# Altium schematic symbol library jlcpcb_2025_04_ferrites_extended_0402.schlib: 536 symbols (part 2 of 10)
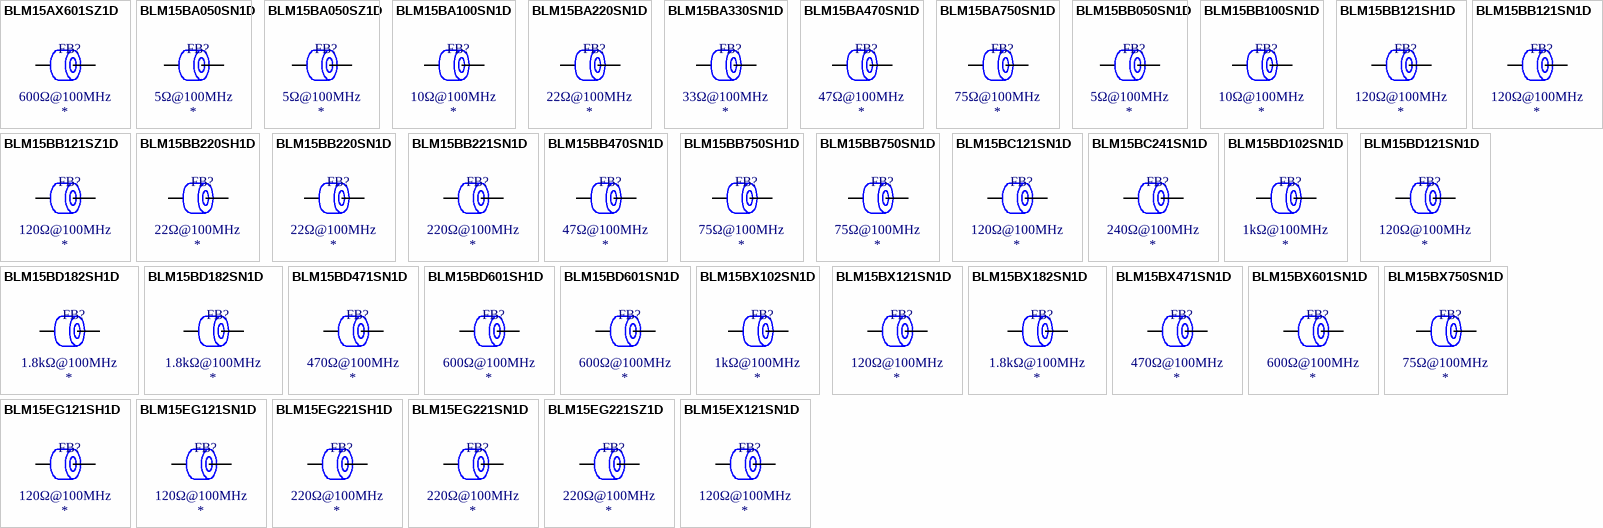
[diagram p14: symbols BLM15AX601SZ1D to BLM15EX121SN1D]

## BLM15BB221SN1D
designator FB?  Impedance @ Frequency: 220Ω@100MHz
Ferrite, 220Ω@100MHz, ±25%, 800mΩ, 200mA, SMD 0402; Manufacturer: Murata Electronics; Manufacturer Part Number: BLM15BB221SN1D; Package Size: 0402; JLCPCB Basic Part: No; JLCPCB Part Number: C85818; Supplier 1: LCSC; Category: Ferrite Beads; Supplier Part Number 1: C85818; Tolerance: ±25%; Rated Current: 200mA; DC Resistance: 800mΩ; RoHS: Yes; ComponentLink1Description: Datasheet; ComponentLink1URL: https://wmsc.lcsc.com/wmsc/upload/file/pdf/v2/lcsc/2304140030_Murata-Electronics-BLM15BB221SN1D_C85818.pdf; ComponentLink2Description: JLCPCB Part URL; ComponentLink2URL: https://jlcpcb.com/partdetail/C85818; ComponentLink3Description: LCSC Part URL; ComponentLink3URL: https://lcsc.com/product-detail/Ferrite-Beads_Murata-Electronics-Murata-Electronics-BLM15BB221SN1D_C85818.html
footprint FB-0402 (0402 (1005M) Ferrite)
pins: 1, 2

## BLM15BB470SN1D
designator FB?  Impedance @ Frequency: 47Ω@100MHz
Ferrite, 47Ω@100MHz, ±25%, 350mΩ, 300mA, SMD 0402; Manufacturer: Murata Electronics; Manufacturer Part Number: BLM15BB470SN1D; Package Size: 0402; JLCPCB Basic Part: No; JLCPCB Part Number: C76887; Supplier 1: LCSC; Category: Ferrite Beads; Supplier Part Number 1: C76887; Tolerance: ±25%; Rated Current: 300mA; DC Resistance: 350mΩ; RoHS: Yes; ComponentLink1Description: Datasheet; ComponentLink1URL: https://wmsc.lcsc.com/wmsc/upload/file/pdf/v2/lcsc/2304140030_Murata-Electronics-BLM15BB470SN1D_C76887.pdf; ComponentLink2Description: JLCPCB Part URL; ComponentLink2URL: https://jlcpcb.com/partdetail/C76887; ComponentLink3Description: LCSC Part URL; ComponentLink3URL: https://lcsc.com/product-detail/Ferrite-Beads_Murata-Electronics-Murata-Electronics-BLM15BB470SN1D_C76887.html
footprint FB-0402 (0402 (1005M) Ferrite)
pins: 1, 2

## BLM15BB750SH1D
designator FB?  Impedance @ Frequency: 75Ω@100MHz
Ferrite, 75Ω@100MHz, ±25%, 400mΩ, 300mA, SMD 0402; Manufacturer: Murata Electronics; Manufacturer Part Number: BLM15BB750SH1D; Package Size: 0402; JLCPCB Basic Part: No; JLCPCB Part Number: C1852585; Supplier 1: LCSC; Category: Ferrite Beads; Supplier Part Number 1: C1852585; Tolerance: ±25%; Rated Current: 300mA; DC Resistance: 400mΩ; RoHS: Yes; ComponentLink1Description: Datasheet; ComponentLink1URL: https://wmsc.lcsc.com/wmsc/upload/file/pdf/v2/lcsc/2304140030_Murata-Electronics-BLM15BB750SH1D_C1852585.pdf; ComponentLink2Description: JLCPCB Part URL; ComponentLink2URL: https://jlcpcb.com/partdetail/C1852585; ComponentLink3Description: LCSC Part URL; ComponentLink3URL: https://lcsc.com/product-detail/Ferrite-Beads_Murata-Electronics-Murata-Electronics-BLM15BB750SH1D_C1852585.html
footprint FB-0402 (0402 (1005M) Ferrite)
pins: 1, 2

## BLM15BB750SN1D
designator FB?  Impedance @ Frequency: 75Ω@100MHz
Ferrite, 75Ω@100MHz, ±25%, 400mΩ, 300mA, SMD 0402; Manufacturer: Murata Electronics; Manufacturer Part Number: BLM15BB750SN1D; Package Size: 0402; JLCPCB Basic Part: No; JLCPCB Part Number: C82880; Supplier 1: LCSC; Category: Ferrite Beads; Supplier Part Number 1: C82880; Tolerance: ±25%; Rated Current: 300mA; DC Resistance: 400mΩ; RoHS: Yes; ComponentLink1Description: Datasheet; ComponentLink1URL: https://wmsc.lcsc.com/wmsc/upload/file/pdf/v2/lcsc/2304140030_Murata-Electronics-BLM15BB750SN1D_C82880.pdf; ComponentLink2Description: JLCPCB Part URL; ComponentLink2URL: https://jlcpcb.com/partdetail/C82880; ComponentLink3Description: LCSC Part URL; ComponentLink3URL: https://lcsc.com/product-detail/Ferrite-Beads_Murata-Electronics-Murata-Electronics-BLM15BB750SN1D_C82880.html
footprint FB-0402 (0402 (1005M) Ferrite)
pins: 1, 2

## BLM15BC121SN1D
designator FB?  Impedance @ Frequency: 120Ω@100MHz
Ferrite, 120Ω@100MHz, ±25%, 450mΩ, 350mA, SMD 0402; Manufacturer: Murata Electronics; Manufacturer Part Number: BLM15BC121SN1D; Package Size: 0402; JLCPCB Basic Part: No; JLCPCB Part Number: C701306; Supplier 1: LCSC; Category: Ferrite Beads; Supplier Part Number 1: C701306; Tolerance: ±25%; Rated Current: 350mA; DC Resistance: 450mΩ; RoHS: Yes; ComponentLink1Description: Datasheet; ComponentLink1URL: https://wmsc.lcsc.com/wmsc/upload/file/pdf/v2/lcsc/2304140030_Murata-Electronics-BLM15BC121SN1D_C701306.pdf; ComponentLink2Description: JLCPCB Part URL; ComponentLink2URL: https://jlcpcb.com/partdetail/C701306; ComponentLink3Description: LCSC Part URL; ComponentLink3URL: https://lcsc.com/product-detail/Ferrite-Beads_Murata-Electronics-Murata-Electronics-BLM15BC121SN1D_C701306.html
footprint FB-0402 (0402 (1005M) Ferrite)
pins: 1, 2

## BLM15BC241SN1D
designator FB?  Impedance @ Frequency: 240Ω@100MHz
Ferrite, 240Ω@100MHz, ±25%, 700mΩ, 250mA, SMD 0402; Manufacturer: Murata Electronics; Manufacturer Part Number: BLM15BC241SN1D; Package Size: 0402; JLCPCB Basic Part: No; JLCPCB Part Number: C88962; Supplier 1: LCSC; Category: Ferrite Beads; Supplier Part Number 1: C88962; Tolerance: ±25%; Rated Current: 250mA; DC Resistance: 700mΩ; RoHS: Yes; ComponentLink1Description: Datasheet; ComponentLink1URL: https://wmsc.lcsc.com/wmsc/upload/file/pdf/v2/lcsc/2304140030_Murata-Electronics-BLM15BC241SN1D_C88962.pdf; ComponentLink2Description: JLCPCB Part URL; ComponentLink2URL: https://jlcpcb.com/partdetail/C88962; ComponentLink3Description: LCSC Part URL; ComponentLink3URL: https://lcsc.com/product-detail/Ferrite-Beads_Murata-Electronics-Murata-Electronics-BLM15BC241SN1D_C88962.html
footprint FB-0402 (0402 (1005M) Ferrite)
pins: 1, 2

## BLM15BD102SN1D
designator FB?  Impedance @ Frequency: 1kΩ@100MHz
Ferrite, 1kΩ@100MHz, ±25%, 900mΩ, 200mA, SMD 0402; Manufacturer: Murata Electronics; Manufacturer Part Number: BLM15BD102SN1D; Package Size: 0402; JLCPCB Basic Part: No; JLCPCB Part Number: C85819; Supplier 1: LCSC; Category: Ferrite Beads; Supplier Part Number 1: C85819; Tolerance: ±25%; Rated Current: 200mA; DC Resistance: 900mΩ; RoHS: Yes; ComponentLink1Description: Datasheet; ComponentLink1URL: https://wmsc.lcsc.com/wmsc/upload/file/pdf/v2/lcsc/2304140030_Murata-Electronics-BLM15BD102SN1D_C85819.pdf; ComponentLink2Description: JLCPCB Part URL; ComponentLink2URL: https://jlcpcb.com/partdetail/C85819; ComponentLink3Description: LCSC Part URL; ComponentLink3URL: https://lcsc.com/product-detail/Ferrite-Beads_Murata-Electronics-Murata-Electronics-BLM15BD102SN1D_C85819.html
footprint FB-0402 (0402 (1005M) Ferrite)
pins: 1, 2

## BLM15BD121SN1D
designator FB?  Impedance @ Frequency: 120Ω@100MHz
Ferrite, 120Ω@100MHz, 300mΩ, SMD 0402; Manufacturer: Murata Electronics; Manufacturer Part Number: BLM15BD121SN1D; Package Size: 0402; JLCPCB Basic Part: No; JLCPCB Part Number: C337874; Supplier 1: LCSC; Category: Ferrite Beads; Supplier Part Number 1: C337874; DC Resistance: 300mΩ; RoHS: Yes; ComponentLink1Description: Datasheet; ComponentLink1URL: https://wmsc.lcsc.com/wmsc/upload/file/pdf/v2/lcsc/2304140030_Murata-Electronics-BLM15BD121SN1D_C337874.pdf; ComponentLink2Description: JLCPCB Part URL; ComponentLink2URL: https://jlcpcb.com/partdetail/C337874; ComponentLink3Description: LCSC Part URL; ComponentLink3URL: https://lcsc.com/product-detail/Ferrite-Beads_Murata-Electronics-Murata-Electronics-BLM15BD121SN1D_C337874.html
pins: 1, 2

## BLM15BD182SH1D
designator FB?  Impedance @ Frequency: 1.8kΩ@100MHz
Ferrite, 1.8kΩ@100MHz, ±25%, 1.4Ω, 200mA, SMD 0402; Manufacturer: Murata Electronics; Manufacturer Part Number: BLM15BD182SH1D; Package Size: 0402; JLCPCB Basic Part: No; JLCPCB Part Number: C396655; Supplier 1: LCSC; Category: Ferrite Beads; Supplier Part Number 1: C396655; Tolerance: ±25%; Rated Current: 200mA; DC Resistance: 1.4Ω; RoHS: Yes; ComponentLink1Description: Datasheet; ComponentLink1URL: https://wmsc.lcsc.com/wmsc/upload/file/pdf/v2/lcsc/2304140030_Murata-Electronics-BLM15BD182SH1D_C396655.pdf; ComponentLink2Description: JLCPCB Part URL; ComponentLink2URL: https://jlcpcb.com/partdetail/C396655; ComponentLink3Description: LCSC Part URL; ComponentLink3URL: https://lcsc.com/product-detail/Ferrite-Beads_Murata-Electronics-Murata-Electronics-BLM15BD182SH1D_C396655.html
footprint FB-0402 (0402 (1005M) Ferrite)
pins: 1, 2

## BLM15BD182SN1D
designator FB?  Impedance @ Frequency: 1.8kΩ@100MHz
Ferrite, 1.8kΩ@100MHz, ±25%, 1.4Ω, 100mA, SMD 0402; Manufacturer: Murata Electronics; Manufacturer Part Number: BLM15BD182SN1D; Package Size: 0402; JLCPCB Basic Part: No; JLCPCB Part Number: C85820; Supplier 1: LCSC; Category: Ferrite Beads; Supplier Part Number 1: C85820; Tolerance: ±25%; Rated Current: 100mA; DC Resistance: 1.4Ω; RoHS: Yes; ComponentLink1Description: Datasheet; ComponentLink1URL: https://wmsc.lcsc.com/wmsc/upload/file/pdf/v2/lcsc/2304140030_Murata-Electronics-BLM15BD182SN1D_C85820.pdf; ComponentLink2Description: JLCPCB Part URL; ComponentLink2URL: https://jlcpcb.com/partdetail/C85820; ComponentLink3Description: LCSC Part URL; ComponentLink3URL: https://lcsc.com/product-detail/Ferrite-Beads_Murata-Electronics-Murata-Electronics-BLM15BD182SN1D_C85820.html
footprint FB-0402 (0402 (1005M) Ferrite)
pins: 1, 2

## BLM15BD471SN1D
designator FB?  Impedance @ Frequency: 470Ω@100MHz
Ferrite, 470Ω@100MHz, ±25%, 600mΩ, 200mA, SMD 0402; Manufacturer: Murata Electronics; Manufacturer Part Number: BLM15BD471SN1D; Package Size: 0402; JLCPCB Basic Part: No; JLCPCB Part Number: C77600; Supplier 1: LCSC; Category: Ferrite Beads; Supplier Part Number 1: C77600; Tolerance: ±25%; Rated Current: 200mA; DC Resistance: 600mΩ; RoHS: Yes; ComponentLink1Description: Datasheet; ComponentLink1URL: https://wmsc.lcsc.com/wmsc/upload/file/pdf/v2/lcsc/2304140030_Murata-Electronics-BLM15BD471SN1D_C77600.pdf; ComponentLink2Description: JLCPCB Part URL; ComponentLink2URL: https://jlcpcb.com/partdetail/C77600; ComponentLink3Description: LCSC Part URL; ComponentLink3URL: https://lcsc.com/product-detail/Ferrite-Beads_Murata-Electronics-Murata-Electronics-BLM15BD471SN1D_C77600.html
footprint FB-0402 (0402 (1005M) Ferrite)
pins: 1, 2

## BLM15BD601SH1D
designator FB?  Impedance @ Frequency: 600Ω@100MHz
Ferrite, 600Ω@100MHz, ±25%, 650mΩ, 200mA, SMD 0402; Manufacturer: Murata Electronics; Manufacturer Part Number: BLM15BD601SH1D; Package Size: 0402; JLCPCB Basic Part: No; JLCPCB Part Number: C710334; Supplier 1: LCSC; Category: Ferrite Beads; Supplier Part Number 1: C710334; Tolerance: ±25%; Rated Current: 200mA; DC Resistance: 650mΩ; RoHS: Yes; ComponentLink1Description: Datasheet; ComponentLink1URL: https://wmsc.lcsc.com/wmsc/upload/file/pdf/v2/lcsc/2304140030_Murata-Electronics-BLM15BD601SH1D_C710334.pdf; ComponentLink2Description: JLCPCB Part URL; ComponentLink2URL: https://jlcpcb.com/partdetail/C710334; ComponentLink3Description: LCSC Part URL; ComponentLink3URL: https://lcsc.com/product-detail/Ferrite-Beads_Murata-Electronics-Murata-Electronics-BLM15BD601SH1D_C710334.html
footprint FB-0402 (0402 (1005M) Ferrite)
pins: 1, 2

## BLM15BD601SN1D
designator FB?  Impedance @ Frequency: 600Ω@100MHz
Ferrite, 600Ω@100MHz, ±25%, 650mΩ, 200mA, SMD 0402; Manufacturer: Murata Electronics; Manufacturer Part Number: BLM15BD601SN1D; Package Size: 0402; JLCPCB Basic Part: No; JLCPCB Part Number: C337875; Supplier 1: LCSC; Category: Ferrite Beads; Supplier Part Number 1: C337875; Tolerance: ±25%; Rated Current: 200mA; DC Resistance: 650mΩ; RoHS: Yes; ComponentLink1Description: Datasheet; ComponentLink1URL: https://wmsc.lcsc.com/wmsc/upload/file/pdf/v2/lcsc/2012071938_Murata-Electronics-BLM15BD601SN1D_C337875.pdf; ComponentLink2Description: JLCPCB Part URL; ComponentLink2URL: https://jlcpcb.com/partdetail/C337875; ComponentLink3Description: LCSC Part URL; ComponentLink3URL: https://lcsc.com/product-detail/Ferrite-Beads_Murata-Electronics-Murata-Electronics-BLM15BD601SN1D_C337875.html
footprint FB-0402 (0402 (1005M) Ferrite)
pins: 1, 2

## BLM15BX102SN1D
designator FB?  Impedance @ Frequency: 1kΩ@100MHz
Ferrite, 1kΩ@100MHz, ±25%, 650mΩ, 300mA, SMD 0402; Manufacturer: Murata Electronics; Manufacturer Part Number: BLM15BX102SN1D; Package Size: 0402; JLCPCB Basic Part: No; JLCPCB Part Number: C269769; Supplier 1: LCSC; Category: Ferrite Beads; Supplier Part Number 1: C269769; Tolerance: ±25%; Rated Current: 300mA; DC Resistance: 650mΩ; RoHS: Yes; ComponentLink1Description: Datasheet; ComponentLink1URL: https://wmsc.lcsc.com/wmsc/upload/file/pdf/v2/lcsc/2304140030_Murata-Electronics-BLM15BX102SN1D_C269769.pdf; ComponentLink2Description: JLCPCB Part URL; ComponentLink2URL: https://jlcpcb.com/partdetail/C269769; ComponentLink3Description: LCSC Part URL; ComponentLink3URL: https://lcsc.com/product-detail/Ferrite-Beads_Murata-Electronics-Murata-Electronics-BLM15BX102SN1D_C269769.html
footprint FB-0402 (0402 (1005M) Ferrite)
pins: 1, 2

## BLM15BX121SN1D
designator FB?  Impedance @ Frequency: 120Ω@100MHz
Ferrite, 120Ω@100MHz, ±25%, 170mΩ, 600mA, SMD 0402; Manufacturer: Murata Electronics; Manufacturer Part Number: BLM15BX121SN1D; Package Size: 0402; JLCPCB Basic Part: No; JLCPCB Part Number: C710335; Supplier 1: LCSC; Category: Ferrite Beads; Supplier Part Number 1: C710335; Tolerance: ±25%; Rated Current: 600mA; DC Resistance: 170mΩ; RoHS: Yes; ComponentLink1Description: Datasheet; ComponentLink1URL: https://wmsc.lcsc.com/wmsc/upload/file/pdf/v2/lcsc/2304140030_Murata-Electronics-BLM15BX121SN1D_C710335.pdf; ComponentLink2Description: JLCPCB Part URL; ComponentLink2URL: https://jlcpcb.com/partdetail/C710335; ComponentLink3Description: LCSC Part URL; ComponentLink3URL: https://lcsc.com/product-detail/Ferrite-Beads_Murata-Electronics-Murata-Electronics-BLM15BX121SN1D_C710335.html
footprint FB-0402 (0402 (1005M) Ferrite)
pins: 1, 2

## BLM15BX182SN1D
designator FB?  Impedance @ Frequency: 1.8kΩ@100MHz
Ferrite, 1.8kΩ@100MHz, ±25%, 900mΩ, 250mA, SMD 0402; Manufacturer: Murata Electronics; Manufacturer Part Number: BLM15BX182SN1D; Package Size: 0402; JLCPCB Basic Part: No; JLCPCB Part Number: C701292; Supplier 1: LCSC; Category: Ferrite Beads; Supplier Part Number 1: C701292; Tolerance: ±25%; Rated Current: 250mA; DC Resistance: 900mΩ; RoHS: Yes; ComponentLink1Description: Datasheet; ComponentLink1URL: https://wmsc.lcsc.com/wmsc/upload/file/pdf/v2/lcsc/2304140030_Murata-Electronics-BLM15BX182SN1D_C701292.pdf; ComponentLink2Description: JLCPCB Part URL; ComponentLink2URL: https://jlcpcb.com/partdetail/C701292; ComponentLink3Description: LCSC Part URL; ComponentLink3URL: https://lcsc.com/product-detail/Ferrite-Beads_Murata-Electronics-Murata-Electronics-BLM15BX182SN1D_C701292.html
footprint FB-0402 (0402 (1005M) Ferrite)
pins: 1, 2

## BLM15BX471SN1D
designator FB?  Impedance @ Frequency: 470Ω@100MHz
Ferrite, 470Ω@100MHz, ±25%, 410mΩ, 350mA, SMD 0402; Manufacturer: Murata Electronics; Manufacturer Part Number: BLM15BX471SN1D; Package Size: 0402; JLCPCB Basic Part: No; JLCPCB Part Number: C2661901; Supplier 1: LCSC; Category: Ferrite Beads; Supplier Part Number 1: C2661901; Tolerance: ±25%; Rated Current: 350mA; DC Resistance: 410mΩ; RoHS: Yes; ComponentLink1Description: Datasheet; ComponentLink1URL: https://wmsc.lcsc.com/wmsc/upload/file/pdf/v2/lcsc/2202131730_Murata-Electronics-BLM15BX471SN1D_C2661901.pdf; ComponentLink2Description: JLCPCB Part URL; ComponentLink2URL: https://jlcpcb.com/partdetail/C2661901; ComponentLink3Description: LCSC Part URL; ComponentLink3URL: https://lcsc.com/product-detail/Ferrite-Beads_Murata-Electronics-Murata-Electronics-BLM15BX471SN1D_C2661901.html
footprint FB-0402 (0402 (1005M) Ferrite)
pins: 1, 2

## BLM15BX601SN1D
designator FB?  Impedance @ Frequency: 600Ω@100MHz
Ferrite, 600Ω@100MHz, ±25%, 460mΩ, 350mA, SMD 0402; Manufacturer: Murata Electronics; Manufacturer Part Number: BLM15BX601SN1D; Package Size: 0402; JLCPCB Basic Part: No; JLCPCB Part Number: C710336; Supplier 1: LCSC; Category: Ferrite Beads; Supplier Part Number 1: C710336; Tolerance: ±25%; Rated Current: 350mA; DC Resistance: 460mΩ; RoHS: Yes; ComponentLink1Description: Datasheet; ComponentLink1URL: https://wmsc.lcsc.com/wmsc/upload/file/pdf/v2/lcsc/2304140030_Murata-Electronics-BLM15BX601SN1D_C710336.pdf; ComponentLink2Description: JLCPCB Part URL; ComponentLink2URL: https://jlcpcb.com/partdetail/C710336; ComponentLink3Description: LCSC Part URL; ComponentLink3URL: https://lcsc.com/product-detail/Ferrite-Beads_Murata-Electronics-Murata-Electronics-BLM15BX601SN1D_C710336.html
footprint FB-0402 (0402 (1005M) Ferrite)
pins: 1, 2

## BLM15BX750SN1D
designator FB?  Impedance @ Frequency: 75Ω@100MHz
Ferrite, 75Ω@100MHz, ±25%, 150mΩ, 600mA, SMD 0402; Manufacturer: Murata Electronics; Manufacturer Part Number: BLM15BX750SN1D; Package Size: 0402; JLCPCB Basic Part: No; JLCPCB Part Number: C269770; Supplier 1: LCSC; Category: Ferrite Beads; Supplier Part Number 1: C269770; Tolerance: ±25%; Rated Current: 600mA; DC Resistance: 150mΩ; RoHS: Yes; ComponentLink1Description: Datasheet; ComponentLink1URL: https://wmsc.lcsc.com/wmsc/upload/file/pdf/v2/lcsc/2304140030_Murata-Electronics-BLM15BX750SN1D_C269770.pdf; ComponentLink2Description: JLCPCB Part URL; ComponentLink2URL: https://jlcpcb.com/partdetail/C269770; ComponentLink3Description: LCSC Part URL; ComponentLink3URL: https://lcsc.com/product-detail/Ferrite-Beads_Murata-Electronics-Murata-Electronics-BLM15BX750SN1D_C269770.html
footprint FB-0402 (0402 (1005M) Ferrite)
pins: 1, 2

## BLM15EG121SH1D
designator FB?  Impedance @ Frequency: 120Ω@100MHz
Ferrite, 120Ω@100MHz, ±25%, 95mΩ, 1.5A, SMD 0402; Manufacturer: Murata Electronics; Manufacturer Part Number: BLM15EG121SH1D; Package Size: 0402; JLCPCB Basic Part: No; JLCPCB Part Number: C2661817; Supplier 1: LCSC; Category: Ferrite Beads; Supplier Part Number 1: C2661817; Tolerance: ±25%; Rated Current: 1.5A; DC Resistance: 95mΩ; RoHS: Yes; ComponentLink1Description: Datasheet; ComponentLink1URL: https://wmsc.lcsc.com/wmsc/upload/file/pdf/v2/lcsc/2304140030_Murata-Electronics-BLM15EG121SH1D_C2661817.pdf; ComponentLink2Description: JLCPCB Part URL; ComponentLink2URL: https://jlcpcb.com/partdetail/C2661817; ComponentLink3Description: LCSC Part URL; ComponentLink3URL: https://lcsc.com/product-detail/Ferrite-Beads_Murata-Electronics-Murata-Electronics-BLM15EG121SH1D_C2661817.html
footprint FB-0402 (0402 (1005M) Ferrite)
pins: 1, 2

## BLM15EG121SN1D
designator FB?  Impedance @ Frequency: 120Ω@100MHz
Ferrite, 120Ω@100MHz, ±25%, 95mΩ, 1.5A, SMD 0402; Manufacturer: Murata Electronics; Manufacturer Part Number: BLM15EG121SN1D; Package Size: 0402; JLCPCB Basic Part: No; JLCPCB Part Number: C82861; Supplier 1: LCSC; Category: Ferrite Beads; Supplier Part Number 1: C82861; Tolerance: ±25%; Rated Current: 1.5A; DC Resistance: 95mΩ; RoHS: Yes; ComponentLink1Description: Datasheet; ComponentLink1URL: https://wmsc.lcsc.com/wmsc/upload/file/pdf/v2/lcsc/2304140030_Murata-Electronics-BLM15EG121SN1D_C82861.pdf; ComponentLink2Description: JLCPCB Part URL; ComponentLink2URL: https://jlcpcb.com/partdetail/C82861; ComponentLink3Description: LCSC Part URL; ComponentLink3URL: https://lcsc.com/product-detail/Ferrite-Beads_Murata-Electronics-Murata-Electronics-BLM15EG121SN1D_C82861.html
footprint FB-0402 (0402 (1005M) Ferrite)
pins: 1, 2

## BLM15EG221SH1D
designator FB?  Impedance @ Frequency: 220Ω@100MHz
Ferrite, 220Ω@100MHz, ±25%, 280mΩ, 700mA, SMD 0402; Manufacturer: Murata Electronics; Manufacturer Part Number: BLM15EG221SH1D; Package Size: 0402; JLCPCB Basic Part: No; JLCPCB Part Number: C2662025; Supplier 1: LCSC; Category: Ferrite Beads; Supplier Part Number 1: C2662025; Tolerance: ±25%; Rated Current: 700mA; DC Resistance: 280mΩ; RoHS: Yes; ComponentLink1Description: Datasheet; ComponentLink1URL: https://wmsc.lcsc.com/wmsc/upload/file/pdf/v2/lcsc/2108070930_Murata-Electronics-BLM15EG221SH1D_C2662025.pdf; ComponentLink2Description: JLCPCB Part URL; ComponentLink2URL: https://jlcpcb.com/partdetail/C2662025; ComponentLink3Description: LCSC Part URL; ComponentLink3URL: https://lcsc.com/product-detail/Ferrite-Beads_Murata-Electronics-Murata-Electronics-BLM15EG221SH1D_C2662025.html
footprint FB-0402 (0402 (1005M) Ferrite)
pins: 1, 2

## BLM15EG221SN1D
designator FB?  Impedance @ Frequency: 220Ω@100MHz
Ferrite, 220Ω@100MHz, ±25%, 280mΩ, 700mA, SMD 0402; Manufacturer: Murata Electronics; Manufacturer Part Number: BLM15EG221SN1D; Package Size: 0402; JLCPCB Basic Part: No; JLCPCB Part Number: C85821; Supplier 1: LCSC; Category: Ferrite Beads; Supplier Part Number 1: C85821; Tolerance: ±25%; Rated Current: 700mA; DC Resistance: 280mΩ; RoHS: Yes; ComponentLink1Description: Datasheet; ComponentLink1URL: https://wmsc.lcsc.com/wmsc/upload/file/pdf/v2/lcsc/2304140030_Murata-Electronics-BLM15EG221SN1D_C85821.pdf; ComponentLink2Description: JLCPCB Part URL; ComponentLink2URL: https://jlcpcb.com/partdetail/C85821; ComponentLink3Description: LCSC Part URL; ComponentLink3URL: https://lcsc.com/product-detail/Ferrite-Beads_Murata-Electronics-Murata-Electronics-BLM15EG221SN1D_C85821.html
footprint FB-0402 (0402 (1005M) Ferrite)
pins: 1, 2

## BLM15EG221SZ1D
designator FB?  Impedance @ Frequency: 220Ω@100MHz
Ferrite, 220Ω@100MHz, ±25%, 280mΩ, 700mA, SMD 0402; Manufacturer: Murata Electronics; Manufacturer Part Number: BLM15EG221SZ1D; Package Size: 0402; JLCPCB Basic Part: No; JLCPCB Part Number: C710338; Supplier 1: LCSC; Category: Ferrite Beads; Supplier Part Number 1: C710338; Tolerance: ±25%; Rated Current: 700mA; DC Resistance: 280mΩ; RoHS: Yes; ComponentLink1Description: Datasheet; ComponentLink1URL: https://wmsc.lcsc.com/wmsc/upload/file/pdf/v2/lcsc/2012231244_Murata-Electronics-BLM15EG221SZ1D_C710338.pdf; ComponentLink2Description: JLCPCB Part URL; ComponentLink2URL: https://jlcpcb.com/partdetail/C710338; ComponentLink3Description: LCSC Part URL; ComponentLink3URL: https://lcsc.com/product-detail/Ferrite-Beads_Murata-Electronics-Murata-Electronics-BLM15EG221SZ1D_C710338.html
footprint FB-0402 (0402 (1005M) Ferrite)
pins: 1, 2

## BLM15EX121SN1D
designator FB?  Impedance @ Frequency: 120Ω@100MHz
Ferrite, 120Ω@100MHz, ±25%, 75mΩ, 1.8A, SMD 0402; Manufacturer: Murata Electronics; Manufacturer Part Number: BLM15EX121SN1D; Package Size: 0402; JLCPCB Basic Part: No; JLCPCB Part Number: C426325; Supplier 1: LCSC; Category: Ferrite Beads; Supplier Part Number 1: C426325; Tolerance: ±25%; Rated Current: 1.8A; DC Resistance: 75mΩ; RoHS: Yes; ComponentLink1Description: Datasheet; ComponentLink1URL: https://wmsc.lcsc.com/wmsc/upload/file/pdf/v2/lcsc/2304140030_Murata-Electronics-BLM15EX121SN1D_C426325.pdf; ComponentLink2Description: JLCPCB Part URL; ComponentLink2URL: https://jlcpcb.com/partdetail/C426325; ComponentLink3Description: LCSC Part URL; ComponentLink3URL: https://lcsc.com/product-detail/Ferrite-Beads_Murata-Electronics-Murata-Electronics-BLM15EX121SN1D_C426325.html
footprint FB-0402 (0402 (1005M) Ferrite)
pins: 1, 2

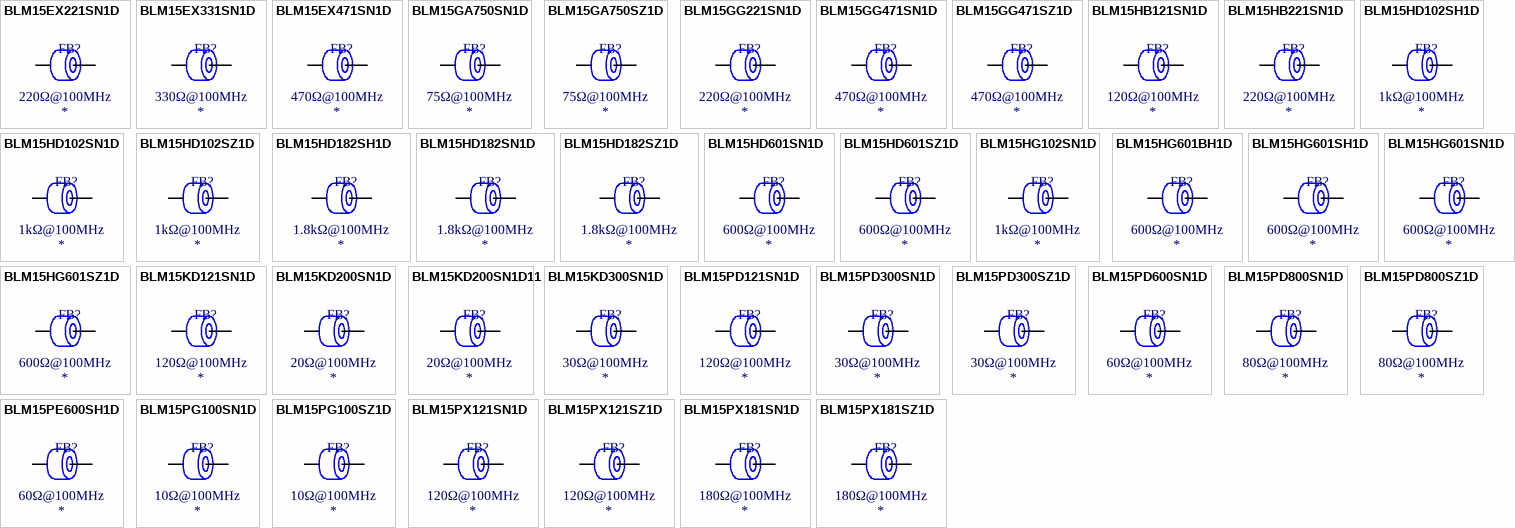
[diagram p2: symbols BLM15EX221SN1D to BLM15PX181SZ1D]

## BLM15EX221SN1D
designator FB?  Impedance @ Frequency: 220Ω@100MHz
Ferrite, 220Ω@100MHz, ±25%, 140mΩ, 1.3A, SMD 0402; Manufacturer: Murata Electronics; Manufacturer Part Number: BLM15EX221SN1D; Package Size: 0402; JLCPCB Basic Part: No; JLCPCB Part Number: C527619; Supplier 1: LCSC; Category: Ferrite Beads; Supplier Part Number 1: C527619; Tolerance: ±25%; Rated Current: 1.3A; DC Resistance: 140mΩ; RoHS: Yes; ComponentLink1Description: Datasheet; ComponentLink1URL: https://wmsc.lcsc.com/wmsc/upload/file/pdf/v2/lcsc/2007231033_Murata-Electronics-BLM15EX221SN1D_C527619.pdf; ComponentLink2Description: JLCPCB Part URL; ComponentLink2URL: https://jlcpcb.com/partdetail/C527619; ComponentLink3Description: LCSC Part URL; ComponentLink3URL: https://lcsc.com/product-detail/Ferrite-Beads_Murata-Electronics-Murata-Electronics-BLM15EX221SN1D_C527619.html
footprint FB-0402 (0402 (1005M) Ferrite)
pins: 1, 2

## BLM15EX331SN1D
designator FB?  Impedance @ Frequency: 330Ω@100MHz
Ferrite, 330Ω@100MHz, 205mΩ, SMD 0402; Manufacturer: Murata Electronics; Manufacturer Part Number: BLM15EX331SN1D; Package Size: 0402; JLCPCB Basic Part: No; JLCPCB Part Number: C596498; Supplier 1: LCSC; Category: Ferrite Beads; Supplier Part Number 1: C596498; DC Resistance: 205mΩ; RoHS: Yes; ComponentLink1Description: Datasheet; ComponentLink1URL: https://wmsc.lcsc.com/wmsc/upload/file/pdf/v2/lcsc/2308111547_Murata-Electronics-BLM15EX331SN1D_C596498.pdf; ComponentLink2Description: JLCPCB Part URL; ComponentLink2URL: https://jlcpcb.com/partdetail/C596498; ComponentLink3Description: LCSC Part URL; ComponentLink3URL: https://lcsc.com/product-detail/Ferrite-Beads_Murata-Electronics-Murata-Electronics-BLM15EX331SN1D_C596498.html
pins: 1, 2

## BLM15EX471SN1D
designator FB?  Impedance @ Frequency: 470Ω@100MHz
Ferrite, 470Ω@100MHz, ±25%, 280mΩ, 950mA, SMD 0402; Manufacturer: Murata Electronics; Manufacturer Part Number: BLM15EX471SN1D; Package Size: 0402; JLCPCB Basic Part: No; JLCPCB Part Number: C160971; Supplier 1: LCSC; Category: Ferrite Beads; Supplier Part Number 1: C160971; Tolerance: ±25%; Rated Current: 950mA; DC Resistance: 280mΩ; RoHS: Yes; ComponentLink1Description: Datasheet; ComponentLink1URL: https://wmsc.lcsc.com/wmsc/upload/file/pdf/v2/lcsc/1811081543_Murata-Electronics-BLM15EX471SN1D_C160971.pdf; ComponentLink2Description: JLCPCB Part URL; ComponentLink2URL: https://jlcpcb.com/partdetail/C160971; ComponentLink3Description: LCSC Part URL; ComponentLink3URL: https://lcsc.com/product-detail/Ferrite-Beads_Murata-Electronics-Murata-Electronics-BLM15EX471SN1D_C160971.html
footprint FB-0402 (0402 (1005M) Ferrite)
pins: 1, 2

## BLM15GA750SN1D
designator FB?  Impedance @ Frequency: 75Ω@100MHz
Ferrite, 75Ω@100MHz, ±25%, 1.3Ω, 200mA, SMD 0402; Manufacturer: Murata Electronics; Manufacturer Part Number: BLM15GA750SN1D; Package Size: 0402; JLCPCB Basic Part: No; JLCPCB Part Number: C113009; Supplier 1: LCSC; Category: Ferrite Beads; Supplier Part Number 1: C113009; Tolerance: ±25%; Rated Current: 200mA; DC Resistance: 1.3Ω; RoHS: Yes; ComponentLink1Description: Datasheet; ComponentLink1URL: https://wmsc.lcsc.com/wmsc/upload/file/pdf/v2/lcsc/1811081516_Murata-Electronics-BLM15GA750SN1D_C113009.pdf; ComponentLink2Description: JLCPCB Part URL; ComponentLink2URL: https://jlcpcb.com/partdetail/C113009; ComponentLink3Description: LCSC Part URL; ComponentLink3URL: https://lcsc.com/product-detail/Ferrite-Beads_Murata-Electronics-Murata-Electronics-BLM15GA750SN1D_C113009.html
footprint FB-0402 (0402 (1005M) Ferrite)
pins: 1, 2

## BLM15GA750SZ1D
designator FB?  Impedance @ Frequency: 75Ω@100MHz
Ferrite, 75Ω@100MHz, ±25%, 1.3Ω, 200mA, SMD 0402; Manufacturer: Murata Electronics; Manufacturer Part Number: BLM15GA750SZ1D; Package Size: 0402; JLCPCB Basic Part: No; JLCPCB Part Number: C2661966; Supplier 1: LCSC; Category: Ferrite Beads; Supplier Part Number 1: C2661966; Tolerance: ±25%; Rated Current: 200mA; DC Resistance: 1.3Ω; RoHS: Yes; ComponentLink1Description: Datasheet; ComponentLink1URL: https://wmsc.lcsc.com/wmsc/upload/file/pdf/v2/lcsc/2106071735_Murata-Electronics-BLM15GA750SZ1D_C2661966.pdf; ComponentLink2Description: JLCPCB Part URL; ComponentLink2URL: https://jlcpcb.com/partdetail/C2661966; ComponentLink3Description: LCSC Part URL; ComponentLink3URL: https://lcsc.com/product-detail/Ferrite-Beads_Murata-Electronics-Murata-Electronics-BLM15GA750SZ1D_C2661966.html
footprint FB-0402 (0402 (1005M) Ferrite)
pins: 1, 2

## BLM15GG221SN1D
designator FB?  Impedance @ Frequency: 220Ω@100MHz
Ferrite, 220Ω@100MHz, ±25%, 700mΩ, 300mA, SMD 0402; Manufacturer: Murata Electronics; Manufacturer Part Number: BLM15GG221SN1D; Package Size: 0402; JLCPCB Basic Part: No; JLCPCB Part Number: C167448; Supplier 1: LCSC; Category: Ferrite Beads; Supplier Part Number 1: C167448; Tolerance: ±25%; Rated Current: 300mA; DC Resistance: 700mΩ; RoHS: Yes; ComponentLink1Description: Datasheet; ComponentLink1URL: https://wmsc.lcsc.com/wmsc/upload/file/pdf/v2/lcsc/1811081543_Murata-Electronics-BLM15GG221SN1D_C167448.pdf; ComponentLink2Description: JLCPCB Part URL; ComponentLink2URL: https://jlcpcb.com/partdetail/C167448; ComponentLink3Description: LCSC Part URL; ComponentLink3URL: https://lcsc.com/product-detail/Ferrite-Beads_Murata-Electronics-Murata-Electronics-BLM15GG221SN1D_C167448.html
footprint FB-0402 (0402 (1005M) Ferrite)
pins: 1, 2

## BLM15GG471SN1D
designator FB?  Impedance @ Frequency: 470Ω@100MHz
Ferrite, 470Ω@100MHz, ±25%, 1.3Ω, 200mA, SMD 0402; Manufacturer: Murata Electronics; Manufacturer Part Number: BLM15GG471SN1D; Package Size: 0402; JLCPCB Basic Part: No; JLCPCB Part Number: C88964; Supplier 1: LCSC; Category: Ferrite Beads; Supplier Part Number 1: C88964; Tolerance: ±25%; Rated Current: 200mA; DC Resistance: 1.3Ω; RoHS: Yes; ComponentLink1Description: Datasheet; ComponentLink1URL: https://wmsc.lcsc.com/wmsc/upload/file/pdf/v2/lcsc/2304140030_Murata-Electronics-BLM15GG471SN1D_C88964.pdf; ComponentLink2Description: JLCPCB Part URL; ComponentLink2URL: https://jlcpcb.com/partdetail/C88964; ComponentLink3Description: LCSC Part URL; ComponentLink3URL: https://lcsc.com/product-detail/Ferrite-Beads_Murata-Electronics-Murata-Electronics-BLM15GG471SN1D_C88964.html
footprint FB-0402 (0402 (1005M) Ferrite)
pins: 1, 2

## BLM15GG471SZ1D
designator FB?  Impedance @ Frequency: 470Ω@100MHz
Ferrite, 470Ω@100MHz, ±25%, 1.3Ω, 200mA, SMD 0402; Manufacturer: Murata Electronics; Manufacturer Part Number: BLM15GG471SZ1D; Package Size: 0402; JLCPCB Basic Part: No; JLCPCB Part Number: C710339; Supplier 1: LCSC; Category: Ferrite Beads; Supplier Part Number 1: C710339; Tolerance: ±25%; Rated Current: 200mA; DC Resistance: 1.3Ω; RoHS: Yes; ComponentLink1Description: Datasheet; ComponentLink1URL: https://wmsc.lcsc.com/wmsc/upload/file/pdf/v2/lcsc/2304140030_Murata-Electronics-BLM15GG471SZ1D_C710339.pdf; ComponentLink2Description: JLCPCB Part URL; ComponentLink2URL: https://jlcpcb.com/partdetail/C710339; ComponentLink3Description: LCSC Part URL; ComponentLink3URL: https://lcsc.com/product-detail/Ferrite-Beads_Murata-Electronics-Murata-Electronics-BLM15GG471SZ1D_C710339.html
footprint FB-0402 (0402 (1005M) Ferrite)
pins: 1, 2

## BLM15HB121SN1D
designator FB?  Impedance @ Frequency: 120Ω@100MHz
Ferrite, 120Ω@100MHz, ±25%, 700mΩ, 300mA, SMD 0402; Manufacturer: Murata Electronics; Manufacturer Part Number: BLM15HB121SN1D; Package Size: 0402; JLCPCB Basic Part: No; JLCPCB Part Number: C88965; Supplier 1: LCSC; Category: Ferrite Beads; Supplier Part Number 1: C88965; Tolerance: ±25%; Rated Current: 300mA; DC Resistance: 700mΩ; RoHS: Yes; ComponentLink1Description: Datasheet; ComponentLink1URL: https://wmsc.lcsc.com/wmsc/upload/file/pdf/v2/lcsc/2304140030_Murata-Electronics-BLM15HB121SN1D_C88965.pdf; ComponentLink2Description: JLCPCB Part URL; ComponentLink2URL: https://jlcpcb.com/partdetail/C88965; ComponentLink3Description: LCSC Part URL; ComponentLink3URL: https://lcsc.com/product-detail/Ferrite-Beads_Murata-Electronics-Murata-Electronics-BLM15HB121SN1D_C88965.html
footprint FB-0402 (0402 (1005M) Ferrite)
pins: 1, 2

## BLM15HB221SN1D
designator FB?  Impedance @ Frequency: 220Ω@100MHz
Ferrite, 220Ω@100MHz, ±25%, 1Ω, 250mA, SMD 0402; Manufacturer: Murata Electronics; Manufacturer Part Number: BLM15HB221SN1D; Package Size: 0402; JLCPCB Basic Part: No; JLCPCB Part Number: C88966; Supplier 1: LCSC; Category: Ferrite Beads; Supplier Part Number 1: C88966; Tolerance: ±25%; Rated Current: 250mA; DC Resistance: 1Ω; RoHS: Yes; ComponentLink1Description: Datasheet; ComponentLink1URL: https://wmsc.lcsc.com/wmsc/upload/file/pdf/v2/lcsc/2304140030_Murata-Electronics-BLM15HB221SN1D_C88966.pdf; ComponentLink2Description: JLCPCB Part URL; ComponentLink2URL: https://jlcpcb.com/partdetail/C88966; ComponentLink3Description: LCSC Part URL; ComponentLink3URL: https://lcsc.com/product-detail/Ferrite-Beads_Murata-Electronics-Murata-Electronics-BLM15HB221SN1D_C88966.html
footprint FB-0402 (0402 (1005M) Ferrite)
pins: 1, 2

## BLM15HD102SH1D
designator FB?  Impedance @ Frequency: 1kΩ@100MHz
Ferrite, 1kΩ@100MHz, ±25%, 1.25Ω, 250mA, SMD 0402; Manufacturer: Murata Electronics; Manufacturer Part Number: BLM15HD102SH1D; Package Size: 0402; JLCPCB Basic Part: No; JLCPCB Part Number: C440128; Supplier 1: LCSC; Category: Ferrite Beads; Supplier Part Number 1: C440128; Tolerance: ±25%; Rated Current: 250mA; DC Resistance: 1.25Ω; RoHS: Yes; ComponentLink1Description: Datasheet; ComponentLink1URL: https://wmsc.lcsc.com/wmsc/upload/file/pdf/v2/lcsc/2001071206_Murata-Electronics-BLM15HD102SH1D_C440128.pdf; ComponentLink2Description: JLCPCB Part URL; ComponentLink2URL: https://jlcpcb.com/partdetail/C440128; ComponentLink3Description: LCSC Part URL; ComponentLink3URL: https://lcsc.com/product-detail/Ferrite-Beads_Murata-Electronics-Murata-Electronics-BLM15HD102SH1D_C440128.html
footprint FB-0402 (0402 (1005M) Ferrite)
pins: 1, 2

## BLM15HD102SN1D
designator FB?  Impedance @ Frequency: 1kΩ@100MHz
Ferrite, 1kΩ@100MHz, ±25%, 1.25Ω, 250mA, SMD 0402; Manufacturer: Murata Electronics; Manufacturer Part Number: BLM15HD102SN1D; Package Size: 0402; JLCPCB Basic Part: No; JLCPCB Part Number: C21516; Supplier 1: LCSC; Category: Ferrite Beads; Supplier Part Number 1: C21516; Tolerance: ±25%; Rated Current: 250mA; DC Resistance: 1.25Ω; RoHS: Yes; ComponentLink1Description: Datasheet; ComponentLink1URL: https://wmsc.lcsc.com/wmsc/upload/file/pdf/v2/lcsc/1811091923_Murata-Electronics-BLM15HD102SN1D_C21516.pdf; ComponentLink2Description: JLCPCB Part URL; ComponentLink2URL: https://jlcpcb.com/partdetail/C21516; ComponentLink3Description: LCSC Part URL; ComponentLink3URL: https://lcsc.com/product-detail/Ferrite-Beads_Murata-Electronics-Murata-Electronics-BLM15HD102SN1D_C21516.html
footprint FB-0402 (0402 (1005M) Ferrite)
pins: 1, 2

## BLM15HD102SZ1D
designator FB?  Impedance @ Frequency: 1kΩ@100MHz
Ferrite, 1kΩ@100MHz, 1.25Ω, SMD 0402; Manufacturer: Murata Electronics; Manufacturer Part Number: BLM15HD102SZ1D; Package Size: 0402; JLCPCB Basic Part: No; JLCPCB Part Number: C783274; Supplier 1: LCSC; Category: Ferrite Beads; Supplier Part Number 1: C783274; DC Resistance: 1.25Ω; RoHS: Yes; ComponentLink1Description: Datasheet; ComponentLink1URL: https://wmsc.lcsc.com/wmsc/upload/file/pdf/v2/lcsc/2308111547_Murata-Electronics-BLM15HD102SZ1D_C783274.pdf; ComponentLink2Description: JLCPCB Part URL; ComponentLink2URL: https://jlcpcb.com/partdetail/C783274; ComponentLink3Description: LCSC Part URL; ComponentLink3URL: https://lcsc.com/product-detail/Ferrite-Beads_Murata-Electronics-Murata-Electronics-BLM15HD102SZ1D_C783274.html
pins: 1, 2

## BLM15HD182SH1D
designator FB?  Impedance @ Frequency: 1.8kΩ@100MHz
Ferrite, 1.8kΩ@100MHz, ±25%, 2.2Ω, 200mA, SMD 0402; Manufacturer: Murata Electronics; Manufacturer Part Number: BLM15HD182SH1D; Package Size: 0402; JLCPCB Basic Part: No; JLCPCB Part Number: C337876; Supplier 1: LCSC; Category: Ferrite Beads; Supplier Part Number 1: C337876; Tolerance: ±25%; Rated Current: 200mA; DC Resistance: 2.2Ω; RoHS: Yes; ComponentLink1Description: Datasheet; ComponentLink1URL: https://wmsc.lcsc.com/wmsc/upload/file/pdf/v2/lcsc/2304140030_Murata-Electronics-BLM15HD182SH1D_C337876.pdf; ComponentLink2Description: JLCPCB Part URL; ComponentLink2URL: https://jlcpcb.com/partdetail/C337876; ComponentLink3Description: LCSC Part URL; ComponentLink3URL: https://lcsc.com/product-detail/Ferrite-Beads_Murata-Electronics-Murata-Electronics-BLM15HD182SH1D_C337876.html
footprint FB-0402 (0402 (1005M) Ferrite)
pins: 1, 2

## BLM15HD182SN1D
designator FB?  Impedance @ Frequency: 1.8kΩ@100MHz
Ferrite, 1.8kΩ@100MHz, ±25%, 2.2Ω, 200mA, SMD 0402; Manufacturer: Murata Electronics; Manufacturer Part Number: BLM15HD182SN1D; Package Size: 0402; JLCPCB Basic Part: No; JLCPCB Part Number: C76888; Supplier 1: LCSC; Category: Ferrite Beads; Supplier Part Number 1: C76888; Tolerance: ±25%; Rated Current: 200mA; DC Resistance: 2.2Ω; RoHS: Yes; ComponentLink1Description: Datasheet; ComponentLink1URL: https://wmsc.lcsc.com/wmsc/upload/file/pdf/v2/lcsc/2304140030_Murata-Electronics-BLM15HD182SN1D_C76888.pdf; ComponentLink2Description: JLCPCB Part URL; ComponentLink2URL: https://jlcpcb.com/partdetail/C76888; ComponentLink3Description: LCSC Part URL; ComponentLink3URL: https://lcsc.com/product-detail/Ferrite-Beads_Murata-Electronics-Murata-Electronics-BLM15HD182SN1D_C76888.html
footprint FB-0402 (0402 (1005M) Ferrite)
pins: 1, 2

## BLM15HD182SZ1D
designator FB?  Impedance @ Frequency: 1.8kΩ@100MHz
Ferrite, 1.8kΩ@100MHz, ±25%, 2.2Ω, 200mA, SMD 0402; Manufacturer: Murata Electronics; Manufacturer Part Number: BLM15HD182SZ1D; Package Size: 0402; JLCPCB Basic Part: No; JLCPCB Part Number: C2661581; Supplier 1: LCSC; Category: Ferrite Beads; Supplier Part Number 1: C2661581; Tolerance: ±25%; Rated Current: 200mA; DC Resistance: 2.2Ω; RoHS: Yes; ComponentLink1Description: Datasheet; ComponentLink1URL: https://wmsc.lcsc.com/wmsc/upload/file/pdf/v2/lcsc/2202131730_Murata-Electronics-BLM15HD182SZ1D_C2661581.pdf; ComponentLink2Description: JLCPCB Part URL; ComponentLink2URL: https://jlcpcb.com/partdetail/C2661581; ComponentLink3Description: LCSC Part URL; ComponentLink3URL: https://lcsc.com/product-detail/Ferrite-Beads_Murata-Electronics-Murata-Electronics-BLM15HD182SZ1D_C2661581.html
footprint FB-0402 (0402 (1005M) Ferrite)
pins: 1, 2

## BLM15HD601SN1D
designator FB?  Impedance @ Frequency: 600Ω@100MHz
Ferrite, 600Ω@100MHz, ±25%, 850mΩ, 300mA, SMD 0402; Manufacturer: Murata Electronics; Manufacturer Part Number: BLM15HD601SN1D; Package Size: 0402; JLCPCB Basic Part: No; JLCPCB Part Number: C88967; Supplier 1: LCSC; Category: Ferrite Beads; Supplier Part Number 1: C88967; Tolerance: ±25%; Rated Current: 300mA; DC Resistance: 850mΩ; RoHS: Yes; ComponentLink1Description: Datasheet; ComponentLink1URL: https://wmsc.lcsc.com/wmsc/upload/file/pdf/v2/lcsc/2304140030_Murata-Electronics-BLM15HD601SN1D_C88967.pdf; ComponentLink2Description: JLCPCB Part URL; ComponentLink2URL: https://jlcpcb.com/partdetail/C88967; ComponentLink3Description: LCSC Part URL; ComponentLink3URL: https://lcsc.com/product-detail/Ferrite-Beads_Murata-Electronics-Murata-Electronics-BLM15HD601SN1D_C88967.html
footprint FB-0402 (0402 (1005M) Ferrite)
pins: 1, 2

## BLM15HD601SZ1D
designator FB?  Impedance @ Frequency: 600Ω@100MHz
Ferrite, 600Ω@100MHz, ±25%, 850mΩ, 300mA, SMD 0402; Manufacturer: Murata Electronics; Manufacturer Part Number: BLM15HD601SZ1D; Package Size: 0402; JLCPCB Basic Part: No; JLCPCB Part Number: C710340; Supplier 1: LCSC; Category: Ferrite Beads; Supplier Part Number 1: C710340; Tolerance: ±25%; Rated Current: 300mA; DC Resistance: 850mΩ; RoHS: Yes; ComponentLink1Description: Datasheet; ComponentLink1URL: https://wmsc.lcsc.com/wmsc/upload/file/pdf/v2/lcsc/2201131100_Murata-Electronics-BLM15HD601SZ1D_C710340.pdf; ComponentLink2Description: JLCPCB Part URL; ComponentLink2URL: https://jlcpcb.com/partdetail/C710340; ComponentLink3Description: LCSC Part URL; ComponentLink3URL: https://lcsc.com/product-detail/Ferrite-Beads_Murata-Electronics-Murata-Electronics-BLM15HD601SZ1D_C710340.html
footprint FB-0402 (0402 (1005M) Ferrite)
pins: 1, 2

## BLM15HG102SN1D
designator FB?  Impedance @ Frequency: 1kΩ@100MHz
Ferrite, 1kΩ@100MHz, ±25%, 1.1Ω, 250mA, SMD 0402; Manufacturer: Murata Electronics; Manufacturer Part Number: BLM15HG102SN1D; Package Size: 0402; JLCPCB Basic Part: No; JLCPCB Part Number: C76889; Supplier 1: LCSC; Category: Ferrite Beads; Supplier Part Number 1: C76889; Tolerance: ±25%; Rated Current: 250mA; DC Resistance: 1.1Ω; RoHS: Yes; ComponentLink1Description: Datasheet; ComponentLink1URL: https://wmsc.lcsc.com/wmsc/upload/file/pdf/v2/lcsc/2304140030_Murata-Electronics-BLM15HG102SN1D_C76889.pdf; ComponentLink2Description: JLCPCB Part URL; ComponentLink2URL: https://jlcpcb.com/partdetail/C76889; ComponentLink3Description: LCSC Part URL; ComponentLink3URL: https://lcsc.com/product-detail/Ferrite-Beads_Murata-Electronics-Murata-Electronics-BLM15HG102SN1D_C76889.html
footprint FB-0402 (0402 (1005M) Ferrite)
pins: 1, 2

## BLM15HG601BH1D
designator FB?  Impedance @ Frequency: 600Ω@100MHz
Ferrite, 600Ω@100MHz, ±25%, 700mΩ, 300mA, SMD 0402; Manufacturer: Murata Electronics; Manufacturer Part Number: BLM15HG601BH1D; Package Size: 0402; JLCPCB Basic Part: No; JLCPCB Part Number: C710342; Supplier 1: LCSC; Category: Ferrite Beads; Supplier Part Number 1: C710342; Tolerance: ±25%; Rated Current: 300mA; DC Resistance: 700mΩ; RoHS: Yes; ComponentLink1Description: Datasheet; ComponentLink1URL: https://wmsc.lcsc.com/wmsc/upload/file/pdf/v2/lcsc/2201131100_Murata-Electronics-BLM15HG601BH1D_C710342.pdf; ComponentLink2Description: JLCPCB Part URL; ComponentLink2URL: https://jlcpcb.com/partdetail/C710342; ComponentLink3Description: LCSC Part URL; ComponentLink3URL: https://lcsc.com/product-detail/Ferrite-Beads_Murata-Electronics-Murata-Electronics-BLM15HG601BH1D_C710342.html
footprint FB-0402 (0402 (1005M) Ferrite)
pins: 1, 2

## BLM15HG601SH1D
designator FB?  Impedance @ Frequency: 600Ω@100MHz
Ferrite, 600Ω@100MHz, ±25%, 700mΩ, 300mA, SMD 0402; Manufacturer: Murata Electronics; Manufacturer Part Number: BLM15HG601SH1D; Package Size: 0402; JLCPCB Basic Part: No; JLCPCB Part Number: C2661959; Supplier 1: LCSC; Category: Ferrite Beads; Supplier Part Number 1: C2661959; Tolerance: ±25%; Rated Current: 300mA; DC Resistance: 700mΩ; RoHS: Yes; ComponentLink1Description: Datasheet; ComponentLink1URL: https://wmsc.lcsc.com/wmsc/upload/file/pdf/v2/lcsc/2106071735_Murata-Electronics-BLM15HG601SH1D_C2661959.pdf; ComponentLink2Description: JLCPCB Part URL; ComponentLink2URL: https://jlcpcb.com/partdetail/C2661959; ComponentLink3Description: LCSC Part URL; ComponentLink3URL: https://lcsc.com/product-detail/Ferrite-Beads_Murata-Electronics-Murata-Electronics-BLM15HG601SH1D_C2661959.html
footprint FB-0402 (0402 (1005M) Ferrite)
pins: 1, 2

## BLM15HG601SN1D
designator FB?  Impedance @ Frequency: 600Ω@100MHz
Ferrite, 600Ω@100MHz, ±25%, 700mΩ, 300mA, SMD 0402; Manufacturer: Murata Electronics; Manufacturer Part Number: BLM15HG601SN1D; Package Size: 0402; JLCPCB Basic Part: No; JLCPCB Part Number: C76890; Supplier 1: LCSC; Category: Ferrite Beads; Supplier Part Number 1: C76890; Tolerance: ±25%; Rated Current: 300mA; DC Resistance: 700mΩ; RoHS: Yes; ComponentLink1Description: Datasheet; ComponentLink1URL: https://wmsc.lcsc.com/wmsc/upload/file/pdf/v2/lcsc/2304140030_Murata-Electronics-BLM15HG601SN1D_C76890.pdf; ComponentLink2Description: JLCPCB Part URL; ComponentLink2URL: https://jlcpcb.com/partdetail/C76890; ComponentLink3Description: LCSC Part URL; ComponentLink3URL: https://lcsc.com/product-detail/Ferrite-Beads_Murata-Electronics-Murata-Electronics-BLM15HG601SN1D_C76890.html
footprint FB-0402 (0402 (1005M) Ferrite)
pins: 1, 2

## BLM15HG601SZ1D
designator FB?  Impedance @ Frequency: 600Ω@100MHz
Ferrite, 600Ω@100MHz, 700mΩ, SMD 0402; Manufacturer: Murata Electronics; Manufacturer Part Number: BLM15HG601SZ1D; Package Size: 0402; JLCPCB Basic Part: No; JLCPCB Part Number: C723884; Supplier 1: LCSC; Category: Ferrite Beads; Supplier Part Number 1: C723884; DC Resistance: 700mΩ; RoHS: Yes; ComponentLink1Description: Datasheet; ComponentLink1URL: https://wmsc.lcsc.com/wmsc/upload/file/pdf/v2/lcsc/2304140030_Murata-Electronics-BLM15HG601SZ1D_C723884.pdf; ComponentLink2Description: JLCPCB Part URL; ComponentLink2URL: https://jlcpcb.com/partdetail/C723884; ComponentLink3Description: LCSC Part URL; ComponentLink3URL: https://lcsc.com/product-detail/Ferrite-Beads_Murata-Electronics-Murata-Electronics-BLM15HG601SZ1D_C723884.html
pins: 1, 2

## BLM15KD121SN1D
designator FB?  Impedance @ Frequency: 120Ω@100MHz
Ferrite, 120Ω@100MHz, ±25%, 70mΩ, 1.5A, SMD 0402; Manufacturer: Murata Electronics; Manufacturer Part Number: BLM15KD121SN1D; Package Size: 0402; JLCPCB Basic Part: No; JLCPCB Part Number: C710343; Supplier 1: LCSC; Category: Ferrite Beads; Supplier Part Number 1: C710343; Tolerance: ±25%; Rated Current: 1.5A; DC Resistance: 70mΩ; RoHS: Yes; ComponentLink1Description: Datasheet; ComponentLink1URL: https://wmsc.lcsc.com/wmsc/upload/file/pdf/v2/lcsc/2304140030_Murata-Electronics-BLM15KD121SN1D_C710343.pdf; ComponentLink2Description: JLCPCB Part URL; ComponentLink2URL: https://jlcpcb.com/partdetail/C710343; ComponentLink3Description: LCSC Part URL; ComponentLink3URL: https://lcsc.com/product-detail/Ferrite-Beads_Murata-Electronics-Murata-Electronics-BLM15KD121SN1D_C710343.html
footprint FB-0402 (0402 (1005M) Ferrite)
pins: 1, 2

## BLM15KD200SN1D
designator FB?  Impedance @ Frequency: 20Ω@100MHz
Ferrite, 20Ω@100MHz, ±25%, 11mΩ, 3.8A, SMD 0402; Manufacturer: Murata Electronics; Manufacturer Part Number: BLM15KD200SN1D; Package Size: 0402; JLCPCB Basic Part: No; JLCPCB Part Number: C701260; Supplier 1: LCSC; Category: Ferrite Beads; Supplier Part Number 1: C701260; Tolerance: ±25%; Rated Current: 3.8A; DC Resistance: 11mΩ; RoHS: Yes; ComponentLink1Description: Datasheet; ComponentLink1URL: https://wmsc.lcsc.com/wmsc/upload/file/pdf/v2/lcsc/2304140030_Murata-Electronics-BLM15KD200SN1D_C701260.pdf; ComponentLink2Description: JLCPCB Part URL; ComponentLink2URL: https://jlcpcb.com/partdetail/C701260; ComponentLink3Description: LCSC Part URL; ComponentLink3URL: https://lcsc.com/product-detail/Ferrite-Beads_Murata-Electronics-Murata-Electronics-BLM15KD200SN1D_C701260.html
footprint FB-0402 (0402 (1005M) Ferrite)
pins: 1, 2

## BLM15KD200SN1D11
designator FB?  Impedance @ Frequency: 20Ω@100MHz
Ferrite, 20Ω@100MHz, ±25%, 11mΩ, 3.8A, SMD 0402; Manufacturer: Murata Electronics; Manufacturer Part Number: BLM15KD200SN1D11; Package Size: 0402; JLCPCB Basic Part: No; JLCPCB Part Number: C560062; Supplier 1: LCSC; Category: Ferrite Beads; Supplier Part Number 1: C560062; Tolerance: ±25%; Rated Current: 3.8A; DC Resistance: 11mΩ; RoHS: Yes; ComponentLink1Description: Datasheet; ComponentLink1URL: https://wmsc.lcsc.com/wmsc/upload/file/pdf/v2/lcsc/2304140030_Murata-Electronics-BLM15KD200SN1D11_C560062.pdf; ComponentLink2Description: JLCPCB Part URL; ComponentLink2URL: https://jlcpcb.com/partdetail/C560062; ComponentLink3Description: LCSC Part URL; ComponentLink3URL: https://lcsc.com/product-detail/Ferrite-Beads_Murata-Electronics-Murata-Electronics-BLM15KD200SN1D11_C560062.html
footprint FB-0402 (0402 (1005M) Ferrite)
pins: 1, 2

## BLM15KD300SN1D
designator FB?  Impedance @ Frequency: 30Ω@100MHz
Ferrite, 30Ω@100MHz, ±25%, 17mΩ, 3.1A, SMD 0402; Manufacturer: Murata Electronics; Manufacturer Part Number: BLM15KD300SN1D; Package Size: 0402; JLCPCB Basic Part: No; JLCPCB Part Number: C710344; Supplier 1: LCSC; Category: Ferrite Beads; Supplier Part Number 1: C710344; Tolerance: ±25%; Rated Current: 3.1A; DC Resistance: 17mΩ; RoHS: Yes; ComponentLink1Description: Datasheet; ComponentLink1URL: https://wmsc.lcsc.com/wmsc/upload/file/pdf/v2/lcsc/2304140030_Murata-Electronics-BLM15KD300SN1D_C710344.pdf; ComponentLink2Description: JLCPCB Part URL; ComponentLink2URL: https://jlcpcb.com/partdetail/C710344; ComponentLink3Description: LCSC Part URL; ComponentLink3URL: https://lcsc.com/product-detail/Ferrite-Beads_Murata-Electronics-Murata-Electronics-BLM15KD300SN1D_C710344.html
footprint FB-0402 (0402 (1005M) Ferrite)
pins: 1, 2

## BLM15PD121SN1D
designator FB?  Impedance @ Frequency: 120Ω@100MHz
Ferrite, 120Ω@100MHz, ±25%, 90mΩ, 1.3A, SMD 0402; Manufacturer: Murata Electronics; Manufacturer Part Number: BLM15PD121SN1D; Package Size: 0402; JLCPCB Basic Part: No; JLCPCB Part Number: C76891; Supplier 1: LCSC; Category: Ferrite Beads; Supplier Part Number 1: C76891; Tolerance: ±25%; Rated Current: 1.3A; DC Resistance: 90mΩ; RoHS: Yes; ComponentLink1Description: Datasheet; ComponentLink1URL: https://wmsc.lcsc.com/wmsc/upload/file/pdf/v2/lcsc/2304140030_Murata-Electronics-BLM15PD121SN1D_C76891.pdf; ComponentLink2Description: JLCPCB Part URL; ComponentLink2URL: https://jlcpcb.com/partdetail/C76891; ComponentLink3Description: LCSC Part URL; ComponentLink3URL: https://lcsc.com/product-detail/Ferrite-Beads_Murata-Electronics-Murata-Electronics-BLM15PD121SN1D_C76891.html
footprint FB-0402 (0402 (1005M) Ferrite)
pins: 1, 2

## BLM15PD300SN1D
designator FB?  Impedance @ Frequency: 30Ω@100MHz
Ferrite, 30Ω@100MHz, ±25%, 35mΩ, 2.2A, SMD 0402; Manufacturer: Murata Electronics; Manufacturer Part Number: BLM15PD300SN1D; Package Size: 0402; JLCPCB Basic Part: No; JLCPCB Part Number: C85822; Supplier 1: LCSC; Category: Ferrite Beads; Supplier Part Number 1: C85822; Tolerance: ±25%; Rated Current: 2.2A; DC Resistance: 35mΩ; RoHS: Yes; ComponentLink1Description: Datasheet; ComponentLink1URL: https://wmsc.lcsc.com/wmsc/upload/file/pdf/v2/lcsc/2304140030_Murata-Electronics-BLM15PD300SN1D_C85822.pdf; ComponentLink2Description: JLCPCB Part URL; ComponentLink2URL: https://jlcpcb.com/partdetail/C85822; ComponentLink3Description: LCSC Part URL; ComponentLink3URL: https://lcsc.com/product-detail/Ferrite-Beads_Murata-Electronics-Murata-Electronics-BLM15PD300SN1D_C85822.html
footprint FB-0402 (0402 (1005M) Ferrite)
pins: 1, 2

## BLM15PD300SZ1D
designator FB?  Impedance @ Frequency: 30Ω@100MHz
Ferrite, 30Ω@100MHz, ±25%, 35mΩ, 2.2A, SMD 0402; Manufacturer: Murata Electronics; Manufacturer Part Number: BLM15PD300SZ1D; Package Size: 0402; JLCPCB Basic Part: No; JLCPCB Part Number: C882960; Supplier 1: LCSC; Category: Ferrite Beads; Supplier Part Number 1: C882960; Tolerance: ±25%; Rated Current: 2.2A; DC Resistance: 35mΩ; RoHS: Yes; ComponentLink1Description: Datasheet; ComponentLink1URL: https://wmsc.lcsc.com/wmsc/upload/file/pdf/v2/lcsc/2201242130_Murata-Electronics-BLM15PD300SZ1D_C882960.pdf; ComponentLink2Description: JLCPCB Part URL; ComponentLink2URL: https://jlcpcb.com/partdetail/C882960; ComponentLink3Description: LCSC Part URL; ComponentLink3URL: https://lcsc.com/product-detail/Ferrite-Beads_Murata-Electronics-Murata-Electronics-BLM15PD300SZ1D_C882960.html
footprint FB-0402 (0402 (1005M) Ferrite)
pins: 1, 2